# Altium footprint library gateway2.PcbLib: 43 footprints (part 2 of 3)
Each footprint in its own frame and in the unit in brackets; x right, y up, seen from the top. Pads: shape width x height; smd on the part's side, far side on the other; paste and mask are expansions set on the pad; w line width, h text height; cw(c..) or ccw(c..) is an arc to the next point about the centre after c.
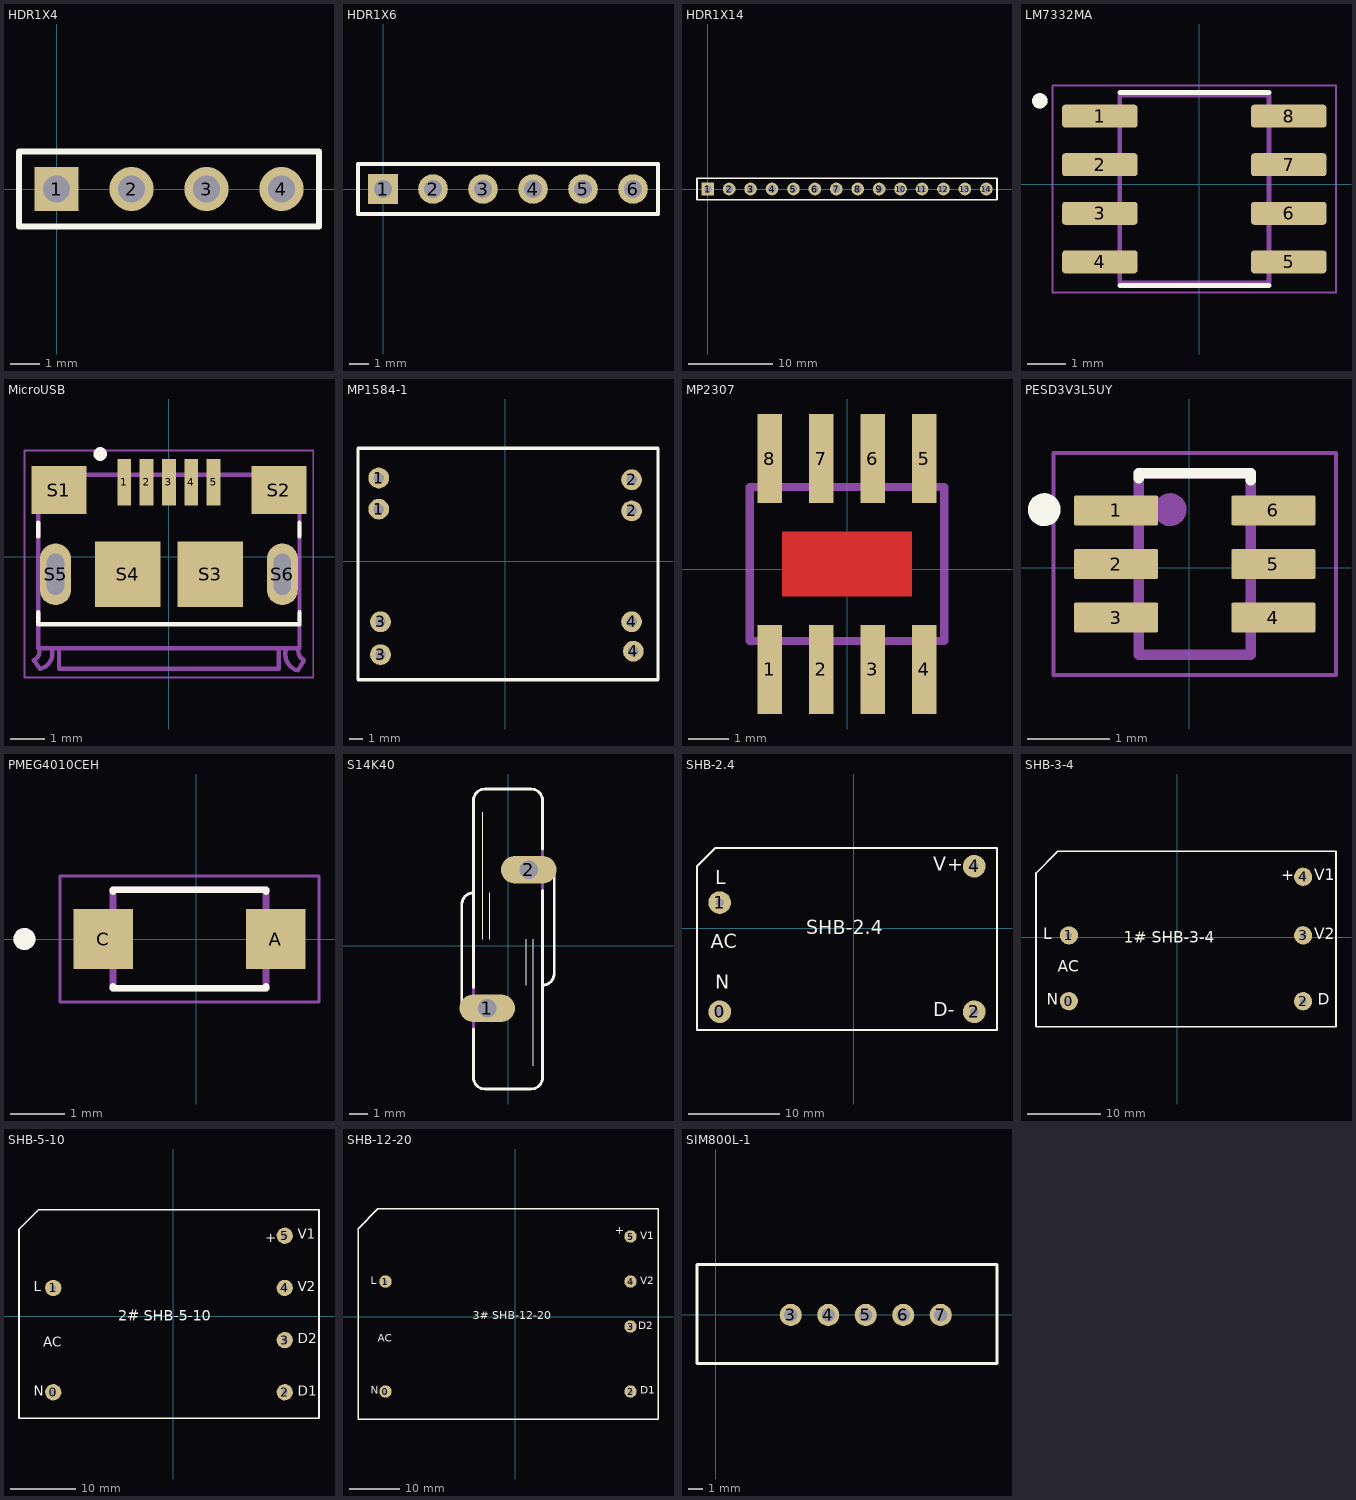
[diagram p1: the footprints below, top view; thin cyan lines are the x and y axes]

## HDR1X4 [mm] "Connector; Header; 4 Position"
pads (4):
  rect 1.5x1.5 hole 0.9: 1(0,0)
  round 1.5 hole 0.9: 2(2.54,0) 3(5.08,0) 4(7.62,0)
Top Overlay:
  lines w0.2: -1.27,-1.27 8.89,-1.27 8.89,1.27 -1.27,1.27 -1.27,-1.27

## HDR1X6 [mm] "Connector; Header; 6 Position"
pads (6):
  rect 1.5x1.5 hole 0.9: 1(0,0)
  round 1.5 hole 0.9: 2(2.54,0) 3(5.08,0) 4(7.62,0) 5(10.16,0) 6(12.7,0)
Top Overlay:
  lines w0.2: -1.27,-1.27 13.97,-1.27 13.97,1.27 -1.27,1.27 -1.27,-1.27

## HDR1X14 [mm] "Connector; Header; 14 Position"
pads (14):
  rect 1.5x1.5 hole 0.9: 1(0,0)
  round 1.5 hole 0.9: 2(2.54,0) 3(5.08,0) 4(7.62,0) 5(10.16,0) 6(12.7,0) 7(15.24,0) 8(17.78,0) 9(20.32,0) 10(22.86,0) 11(25.4,0) 12(27.94,0) 13(30.48,0) 14(33.02,0)
Top Overlay:
  lines w0.2: -1.27,-1.27 -1.27,1.27 0.635,1.27 34.29,1.27 34.29,-1.27 -1.27,-1.27

## LM7332MA [mm]
pads (8):
  rrect25% 1.97x0.6 smd: 1(-2.597,1.778) 2(-2.597,0.508) 3(-2.597,-0.762) 4(-2.597,-2.032) 5(2.343,-2.032) 6(2.343,-0.762) 7(2.343,0.508) 8(2.343,1.778)
Top Overlay:
  circle w0.2: c-4.167,2.178 r0.1
  lines w0.127: -2.077,-2.652 1.823,-2.652 ; -2.077,2.398 1.823,2.398
Mechanical 13:
  circle w0.2: c-4.167,2.178 r0.1
  lines w0.127: -2.077,-2.579 1.823,-2.579 1.823,2.325 -2.077,2.325 -2.077,-2.579
Mechanical 15:
  lines w0.05: -3.832,-2.829 3.578,-2.829 3.578,2.575 -3.832,2.575 -3.832,-2.829

## MicroUSB [mm]
pads (13):
  rect 0.4x1.35 smd: 1(-1.3,2.167) 2(-0.65,2.167) 3(0,2.167) 4(0.65,2.167) 5(1.3,2.167)
  rect 1.6x1.4 smd: S1(-3.2,1.942) S2(3.2,1.942)
  rect 1.9x1.9 smd: S3(1.2,-0.508) S4(-1.2,-0.508)
  oval 0.9x1.8 hole 0.5 slot 1.2 at 90 deg: S5(-3.3,-0.508) S6(3.3,-0.508)
  round 0.5 hole 0.5 unplated: ""(-3.3,-0.508) ""(3.3,-0.508)
Top Overlay:
  circle w0.2: c-2,2.992 r0.1
  lines w0.127: -3.8,-1.958 3.8,-1.958 ; -3.8,-1.908 -3.8,-1.608 ; -3.8,0.592 -3.8,0.992 ; 3.8,-1.908 3.8,-1.608 ; 3.8,0.592 3.8,0.992
Mechanical 13:
  lines w0.127: -3.93,-3.008 -3.75,-3.258 ; -3.93,-3.008 ccw(c-4.065,-2.743) -3.8,-2.608 ; -3.746,-3.257 ccw(c-3.85,-2.808) -3.401,-2.704 ; -3.2,-2.708 -3.2,-3.258 3.2,-3.258 3.2,-2.708 ; 3.401,-2.706 ccw(c3.875,-2.833) 3.748,-3.307 ; 3.75,-3.308 3.93,-3.008 ; 3.8,-2.608 ccw(c4.065,-2.743) 3.93,-3.008 ; -3.8,-2.608 -3.8,2.392 3.8,2.392 3.8,-1.958 3.8,-2.658 -3.8,-2.658 -3.8,-2.608
Mechanical 15:
  lines w0.05: -4.2,-3.508 4.2,-3.508 4.2,3.092 -4.2,3.092 -4.2,-3.508
3D body "step_temp.STEP": height 2.85, standoff -0.75, extent -3.93,-3.268 3.93,2.442

## MP1584-1 [mil]
pads (8):
  round 60 hole 30: 1(-365,150) 1(-365,240) 2(365,145) 2(365,235) 3(-360,-270) 3(-360,-175) 4(365,-175) 4(370,-260)
Top Overlay:
  lines w10: -425,-342.87 441.14,-342.87 441.14,326.42 -425,326.42 -425,-342.87

## MP2307 [mm]
pads (8):
  rect 0.6x2.2 smd: 1(-1.905,-2.473) 2(-0.635,-2.473) 3(0.635,-2.473) 4(1.905,-2.473) 5(1.905,2.727) 6(0.635,2.727) 7(-0.635,2.727) 8(-1.905,2.727)
Top Layer:
  region: 1.6,-0.673 -1.6,-0.673 -1.6,0.927 1.6,0.927
Mechanical 13:
  region: -1.66,-2.973 -2.15,-2.973 -2.15,-1.873 -1.66,-1.873
  region: -0.39,-2.973 -0.88,-2.973 -0.88,-1.873 -0.39,-1.873
  region: 0.88,-2.973 0.39,-2.973 0.39,-1.873 0.88,-1.873
  region: 2.15,-2.973 1.66,-2.973 1.66,-1.873 2.15,-1.873
  region: 2.15,2.127 1.66,2.127 1.66,3.227 2.15,3.227
  region: 0.88,2.127 0.39,2.127 0.39,3.227 0.88,3.227
  region: -0.39,2.127 -0.88,2.127 -0.88,3.227 -0.39,3.227
  region: -1.66,2.127 -2.15,2.127 -2.15,3.227 -1.66,3.227
  lines w0.203: -2.4,-1.773 2.4,-1.773 2.4,-1.273 2.4,2.027 -2.4,2.027 -2.4,-1.273 -2.4,-1.773

## PCF8574 [mm]

## PESD3V3L5UY [mm]
pads (6):
  rrect9% 1.02x0.36 smd: 1(-0.885,0.696) 2(-0.885,0.046) 3(-0.885,-0.604) 4(1.025,-0.604) 5(1.025,0.046) 6(1.025,0.696)
Top Overlay:
  circle w0.2: c-1.759,0.706 r0.1
  lines w0.127: -0.61,1.085 -0.61,1.146 0.75,1.146 0.75,1.065
Mechanical 13:
  circle w0.2: c-0.229,0.706 r0.1
  lines w0.127: -0.61,-1.054 -0.61,1.146 0.75,1.146 0.75,-1.054 -0.61,-1.054
Mechanical 15:
  lines w0.05: -1.645,-1.304 -1.645,1.396 1.785,1.396 1.785,-1.304 -1.645,-1.304

## PMEG4010CEH [mm]
pads (2):
  rect 1.08x1.09 smd: A(1.448,0) C(-1.702,0)
Top Overlay:
  circle w0.2: c-3.142,0 r0.1
  lines w0.127: -1.527,-0.865 -1.527,-0.9 1.273,-0.9 1.273,-0.865 ; -1.527,0.865 -1.527,0.9 1.273,0.9 1.273,0.865
Mechanical 13:
  circle w0.2: c-3.142,0 r0.1
  lines w0.127: -1.527,-0.9 1.273,-0.9 1.273,0.9 -1.527,0.9 -1.527,-0.9
Mechanical 15:
  lines w0.05: -2.492,-1.15 2.238,-1.15 2.238,1.15 -2.492,1.15 -2.492,-1.15
3D body "step_temp.STEP": height 1.3, standoff -0.5, extent -1.922,-0.635 1.778,0.665

## S14K40 [mil]
pads (2):
  oval 120x60 hole 40: 1(-45,-135) 2(45,165)
Top Overlay:
  lines w2: -55,15 -55,290 ; -40,15 -40,115 ; 40,-85 40,15 ; 55,-260 55,15
  lines w6: -100,-130 -100,90 cw(c-75,90) -75,115 ; -75,-180 -75,-285 ccw(c-50,-285) -50,-310 50,-310 ccw(c50,-285) 75,-285 75,120 ; -75,-90 -75,315 cw(c-50,315) -50,340 50,340 cw(c50,315) 75,315 75,210 ; 75,-85 ccw(c75,-60) 100,-60 100,160
Mechanical 13:
  lines w6: -100,-130 ccw(c-75,-130) -75,-155 ; -75,-180 -75,-90 ; 75,120 75,210 ; 75,185 cw(c75,160) 100,160

## SHB-2.4 [mm]
pads (4):
  round 2.5 hole 0.9: 0(-14.732,-9.206) 1(-14.732,2.794) 2(13.268,-9.206) 4(13.268,6.794)
Top Overlay:
  lines w0.254: -17.232,-11.206 15.768,-11.206 15.768,8.794 -15.232,8.794 -17.232,6.794 -17.232,-11.206
  text "AC" at -15.732,-2.206 h1.52
  text "D-" at 8.768,-9.706 h1.52
  text "+" at 10.268,6.294 h1.52
  text "V" at 8.768,6.294 h1.52
  text "L" at -15.232,4.794 h1.52
  text "N" at -15.232,-6.706 h1.52
  text "SHB-2.4" at -5.232,-0.706 h1.52

## SHB-3-4 [mm]
pads (5):
  round 2.5 hole 0.9: 0(-14.83,-8.763) 1(-14.83,0.237) 2(17.17,-8.763) 3(17.17,0.237) 4(17.17,8.237)
Top Overlay:
  lines w0.254: -19.33,-12.263 -19.33,8.737 -16.33,11.737 21.67,11.737 21.67,-12.263 -19.33,-12.263
  text "N" at -17.83,-9.263 h1.52
  text "L" at -18.33,-0.263 h1.52
  text "V1" at 18.67,7.737 h1.52
  text "+" at 14.17,7.737 h1.52
  text "D" at 19.17,-9.263 h1.52
  text "V2" at 18.67,-0.263 h1.52
  text "AC" at -16.33,-4.763 h1.52
  text "1# SHB-3-4" at -7.33,-0.763 h1.52

## SHB-5-10 [mm]
pads (6):
  round 2.5 hole 0.9: 0(-18.425,-11.656) 1(-18.425,4.344) 2(17.075,-11.656) 3(17.075,-3.656) 4(17.075,4.344) 5(17.075,12.344)
Top Overlay:
  lines w0.254: -23.675,-15.656 -23.675,13.344 -20.675,16.344 22.325,16.344 22.325,-15.656 -23.675,-15.656
  text "V1" at 19.075,11.844 h1.52
  text "+" at 14.075,11.344 h1.52
  text "D1" at 19.075,-12.156 h1.52
  text "V2" at 19.075,3.844 h1.52
  text "AC" at -19.925,-4.656 h1.52
  text "2# SHB-5-10" at -8.425,-0.656 h1.6
  text "D2" at 19.075,-4.156 h1.52
  text "L" at -21.425,3.844 h1.52
  text "N" at -21.425,-12.156 h1.52

## SHB-12-20 [mm]
pads (6):
  round 2.5 hole 0.9: 0(-25.935,-14.952) 1(-25.935,7.048) 2(23.065,-14.952) 3(23.065,-1.952) 4(23.065,7.048) 5(23.065,16.048)
Top Overlay:
  lines w0.254: -31.435,-20.452 -31.435,17.548 -27.435,21.548 28.565,21.548 28.565,-20.452 -31.435,-20.452
  text "V1" at 25.065,15.548 h1.52
  text "+" at 20.065,16.548 h1.52
  text "D1" at 25.065,-15.452 h1.52
  text "V2" at 25.065,6.548 h1.52
  text "AC" at -27.435,-4.952 h1.52
  text "3# SHB-12-20" at -8.435,-0.452 h1.6
  text "D2" at 24.565,-2.452 h1.52
  text "L" at -28.935,6.548 h1.52
  text "N" at -28.935,-15.452 h1.52

## SIM800L-1 [mm] "Connector; Header; 8 Position"
pads (5):
  round 1.5 hole 0.9: 3(5.08,0) 4(7.62,0) 5(10.16,0) 6(12.7,0) 7(15.24,0)
Top Overlay:
  lines w0.2: -1.27,-3.302 19.05,-3.302 19.05,3.429 -1.27,3.429 -1.27,-3.302